# EAGLE library part ESP8266_MINI (library rx)
Multi connection point. Often used as Generic Header-pin footprint for 0.1 inch spaced/style header connections On any of the 0.1 inch spaced packages, you can populate with these: Break Away Headers - Straight <https://www.sparkfun.com/products/116> (PRT-00116) Break Away Male Headers - Right Angle <https://www.sparkfun.com/products/553> (PRT-00553) Female Headers <https://www.sparkfun.com/products/115> (PRT-00115) Break Away Headers - Machine Pin <https://www.sparkfun.com/products/117> (PRT-00117) Break Away Female Headers - Swiss Machine Pin <https://www.sparkfun.com/products/743> (PRT-00743)
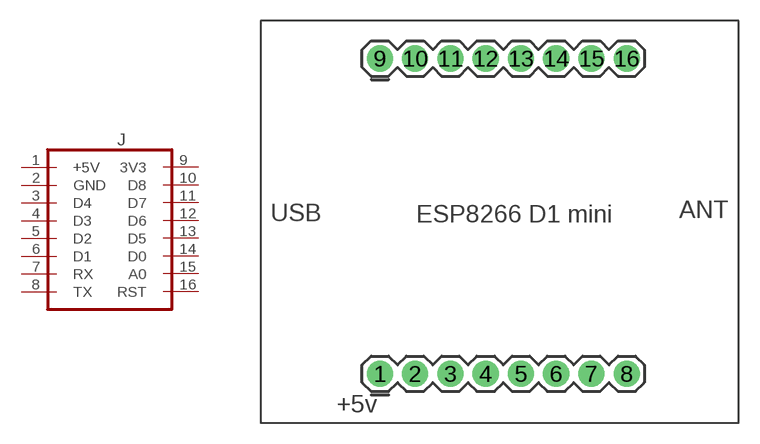
[diagram p5: symbol with the pads of ESP8266_MINI; footprint ESP8266_MINI]

Designator prefix J

## ESP8266_MINI  [ESP8266_MINI]
1  +5V
2  GND
3  D4
4  D3
5  D2
6  D1
7  RX
8  TX
9  3V3
10  D8
11  D7
12  D6
13  D5
14  D0
15  A0
16  RST

## Footprint ESP8266_MINI (pad centres in mm)
Plated Through Hole - 2x4 Specifications: Pin count:8 Pin pitch:0.1" Example device(s): CONN_04x2
drill 1.016 pad 1.88: 1 -10.61,1.53; 2 -8.07,1.53; 3 -5.53,1.53; 4 -2.99,1.53; 5 -0.45,1.53; 6 2.09,1.53; 7 4.63,1.53; 8 7.17,1.53; 9 -10.61,24.23; 10 -8.07,24.23; 11 -5.53,24.23; 12 -2.99,24.23; 13 -0.45,24.23; 14 2.09,24.23; 15 4.63,24.23; 16 7.17,24.23